# EAGLE library part AR610 (library A4988)
AR610 Spektrum receiver 6 channels
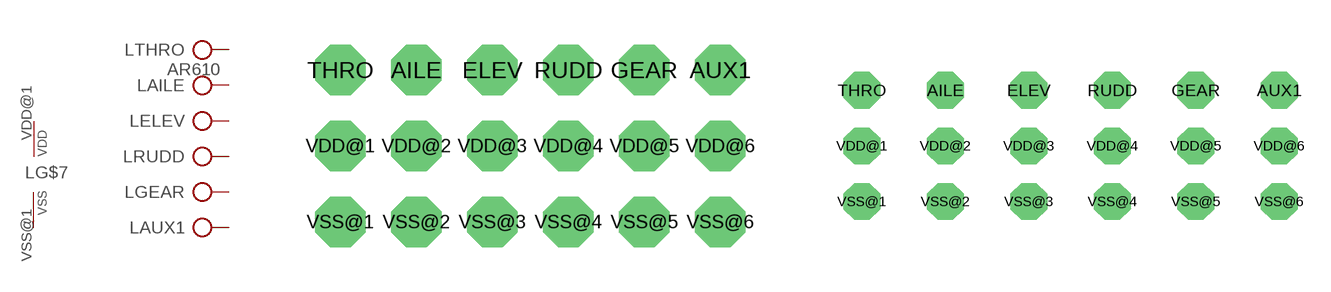
[diagram p1: symbol with the pads of AR610; footprints AR610, AR610L]

Designator prefix L; gates AUX1=KL GEAR=KL RUDD=KL ELEV=KL AILE=KL G$7=PWRN THRO=KLV

## AR610  [AR610]
AILE  AILE:KL  pas
AUX1  AUX1:KL  pas
ELEV  ELEV:KL  pas
GEAR  GEAR:KL  pas
RUDD  RUDD:KL  pas
THRO  THRO:KL  pas
VDD@1  G$7:VDD  pwr
VSS@1  G$7:VSS  pwr

## AR610AR610L  [AR610L]
Pads as for AR610

## Footprint AR610 (pad centres in mm)
drill 0.8 pad 1.676 octagon: AILE 2.54,5.08; AUX1 12.7,5.08; ELEV 5.08,5.08; GEAR 10.16,5.08; RUDD 7.62,5.08; THRO 0,5.08; VDD@1 0,2.54; VDD@2 2.54,2.54; VDD@3 5.08,2.54; VDD@4 7.62,2.54; VDD@5 10.16,2.54; VDD@6 12.7,2.54; VSS@1 0,0; VSS@2 2.54,0; VSS@3 5.08,0; VSS@4 7.62,0; VSS@5 10.16,0; VSS@6 12.7,0

## Footprint AR610L (pad centres in mm)
AR610 enlarged
drill 0.8 pad 1.676 octagon: AILE 3.81,5.08; AUX1 19.05,5.08; ELEV 7.62,5.08; GEAR 15.24,5.08; RUDD 11.43,5.08; THRO 0,5.08; VDD@1 0,2.54; VDD@2 3.81,2.54; VDD@3 7.62,2.54; VDD@4 11.43,2.54; VDD@5 15.24,2.54; VDD@6 19.05,2.54; VSS@1 0,0; VSS@2 3.81,0; VSS@3 7.62,0; VSS@4 11.43,0; VSS@5 15.24,0; VSS@6 19.05,0